# Altium integrated library RC0805FR-072K2L.IntLib: 1 symbol
Pins are listed as number, name and electrical type; pins without a type are passive.

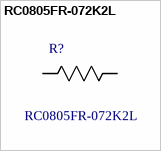
[diagram p0: symbol RC0805FR-072K2L]

## RC0805FR-072K2L
designator R?
Res Thick Film 0805 2.2K Ohm 1% 0.125W_1/8W_ Â}100ppm/ÂÂŽ Molded SMD Paper T/R; MF: Yageo; Availability: Good; Price: 0.01 USD; Package: 0805 Yageo; MP: RC0805FR-072K2L; SnapEDA_Link: https://www.snapeda.com/parts/RC0805FR-072K2L/Yageo/view-part/?ref=snap; Value: *
footprint RESC2013X65N
pins: 1 R1, 2 R2